# Altium schematic symbol library Header_2x1_4A.SchLib: 2 symbols
Pins are listed as number, name and electrical type; pins without a type are passive.

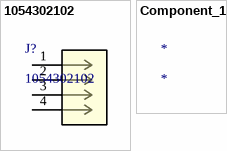
[diagram p0: symbols 1054302102 to Component_1]

## 1054302102
designator J?
No Description Available; Mfr_Name: Molex Connector Corporation; Copyright: Copyright (C) 2022 Ultra Librarian. All rights reserved.; Manufacturer_Part_Number: 1054302102; Digi-Key_Part_Number_1: WM26100TR-ND; Digi-Key_Part_Number_2: WM26100CT-ND; Digi-Key_Part_Number_3: WM26100DKR-ND; RefDes: RefDes; Type: DEV
footprint CON_1054302102_MOL
pins: 1, 2, 3, 4

## Component_1
designator *